# Altium integrated library Analog Devices Data Converters Analog-to-Digital Converters.IntLib: 2404 symbols (part 222 of 346)
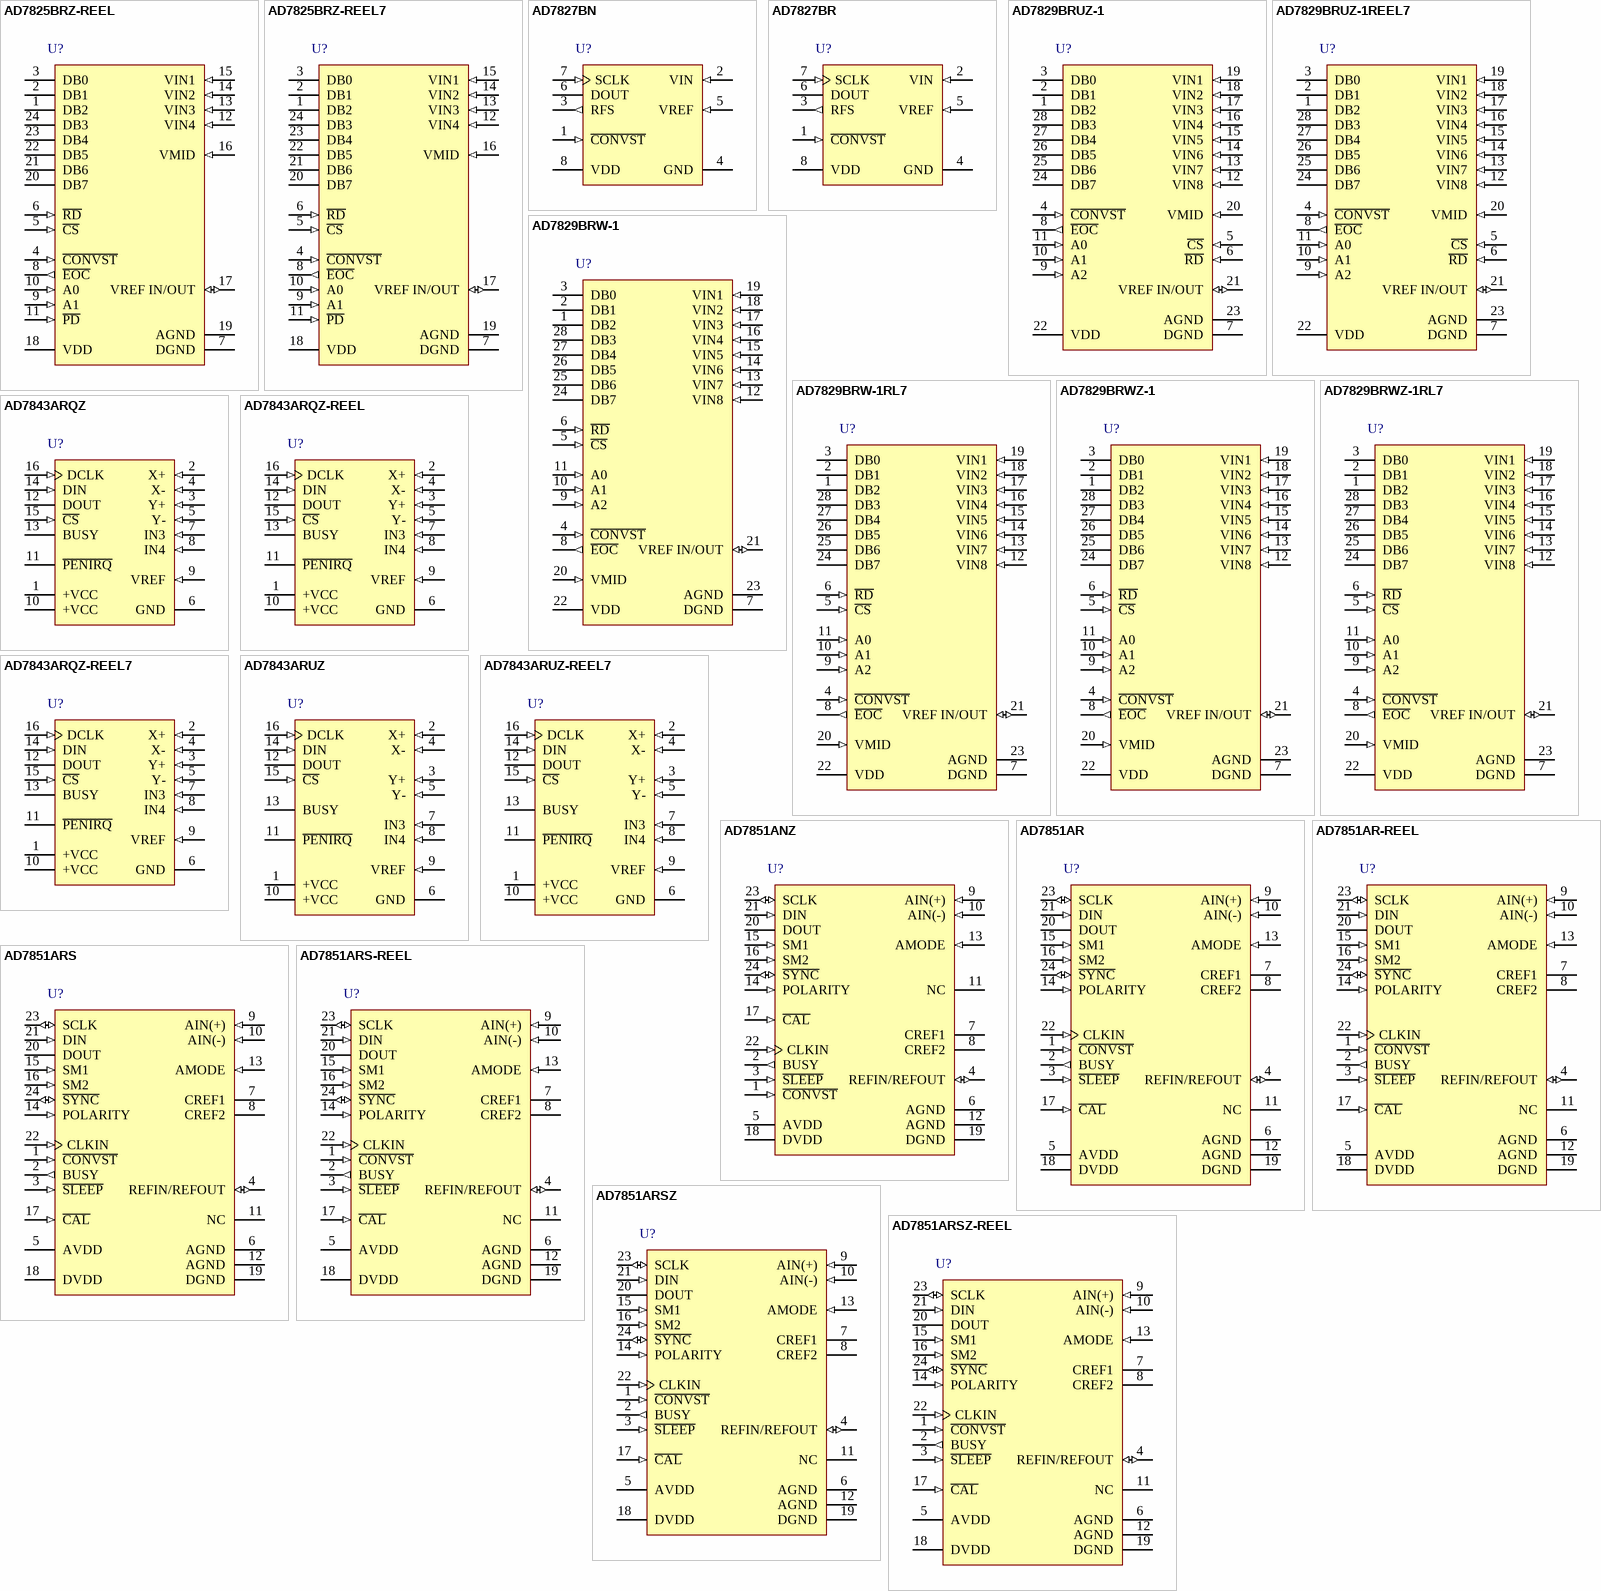
[diagram p274: symbols AD7825BRZ-REEL to AD7851ARSZ-REEL]

## AD7843ARQZ-REEL7
designator U?
4 Channel 12-Bit Touch Screen Digitizer with Serial Interface, 125KSPS, 0 to +70 degC, RQ-16, Pb-Free, Reel; Generic Part Number: AD7843; Manufacturer: Analog Devices; PartNumber: AD7843ARQZ-REEL7; Resolution (Bits): 12; Channels: 4; Throughput Rate (SPS): 125K; Interface: Ser; DatasheetVersion: Rev.B; PackageVersion: Aug-2005; PackageReference: RQ-16; PackageDescription: 16-Lead Shrink Small Outline Package [QSOP]; Supplier 1: Digi-Key; Supplier Part Number 1: AD7843ARQZ-REEL7TR-ND; Supplier 2: Digi-Key; Supplier Part Number 2: AD7843ARQZ-REEL7CT-ND; Supplier 3: Digi-Key; Supplier Part Number 3: AD7843ARQZ-REEL7DKR-ND; Supplier 4: Mouser; Supplier Part Number 4: 584-AD7843ARQZ-R7; RoHS: Y; Packing: Reel; Mounting Technology: Surface Mount; Code_JEDEC: MO-137-AB; ComponentLink1Description: Manufacturer URL; ComponentLink1URL: http://www.analog.com/en/index.html; ComponentLink2Description: Datasheet; ComponentLink2URL: http://www.analog.com/static/imported-files/data_sheets/AD7843.pdf; ComponentLink3Description: Package Specification; ComponentLink3URL: http://www.analog.com/static/imported-files/packages/5595549651201762937RQ_16.pdf; ComponentLink4Description: Product URL; ComponentLink4URL: http://www.analog.com/en/analog-to-digital-converters/ad-converters/ad7843/products/product.html
footprint RQ-16_N (SOP, 16-Leads, Body 4.9x3.9mm, Pitch 0.635mm, IPC Medium Density)
footprint RQ-16_L (SOP, 16-Leads, Body 4.9x3.9mm, Pitch 0.635mm, IPC High Density)
footprint RQ-16_M (SOP, 16-Leads, Body 4.9x3.9mm, Pitch 0.635mm, IPC Low Density)
pins: 1 +VCC (power) "Power Supply Input. The +VCC range for the AD7843 is from 2.2 V to 5.25 V. Both +VCC pins should be connected directly together.", 2 X+ (in) "X+ Position Input. ADC Input Channel 1.", 3 Y+ (in) "Y+ Position Input. ADC Input Channel 2.", 4 X- (in) "X- Position Input.", 5 Y- (in) "Y- Position Input.", 6 GND (power) "Analog Ground. Ground reference point for all circuitry on the AD7843. All analog input signals and any external reference signal should be referred to this GND voltage.", 7 IN3 (in) "Auxiliary Input 1. ADC Input Channel 3.", 8 IN4 (in) "Auxiliary Input 2. ADC Input Channel 4.", 9 VREF (in) "Reference Input for the AD7843. An external reference must be applied to this input. The voltage range for the external reference is 1.0 V to +VCC. For specified performance, it is 2.5 V.", 10 +VCC (power) "Power Supply Input. The +VCC range for the AD7843 is from 2.2 V to 5.25 V. Both +VCC pins should be connected directly together.", 11 ~{PENIRQ} (oc) "Pen Interrupt. CMOS logic open-drain output (requires 10 kohm to 100 kohm pull-up register externally).", 12 DOUT (hiz) "Data Out. Logic Output. The conversion result from the AD7843 is provided on this output as a serial data stream.The bits are clocked out on the falling edge of the DCLK input. This output is high impedance when C\S\ is high.", 13 BUSY (hiz) "BUSY Output. Logic Output. This output is high impedance when C\S\ is high.", 14 DIN (in) "Data In. Logic input. Data to be written to the AD7843 control register is provided on this input and is clocked into the register on the rising edge of DCLK (see the Control Register section).", 15 ~{CS} (in) "Chip Select Input. Active Low Logic Input. This input provides the dual function of initiating conversions on the AD7843 and also enables the serial input/output register.", 16 DCLK (in) "External Clock Input. Logic Input. DCLK provides the serial clock for accessing data from the part. This clock input is also used as the clock source for the AD7843 conversion process."

## AD7843ARUZ
designator U?
4 Channel 12-Bit Touch Screen Digitizer with Serial Interface, 125KSPS, -40 to +85 degC, RU-16, Pb-Freem, Tube; Generic Part Number: AD7843; Manufacturer: Analog Devices; PartNumber: AD7843ARUZ; Resolution (Bits): 12; Channels: 4; Throughput Rate (SPS): 125K; Interface: Ser; DatasheetVersion: Rev.B; PackageVersion: Nov-2002; PackageReference: RU-16; PackageDescription: 16-Lead Thin Shrink Small Outline Package [TSSOP]; Supplier 1: Digi-Key; Supplier Part Number 1: AD7843ARUZ-ND; Supplier 2: Farnell; Supplier Part Number 2: 1699610; Supplier 3: Newark; Supplier Part Number 3: 59K5648; Supplier 4: Mouser; Supplier Part Number 4: 584-AD7843ARUZ; RoHS: Y; Packing: Tube; Mounting Technology: Surface Mount; Code_JEDEC: MO-153-AB; ComponentLink1Description: Manufacturer URL; ComponentLink1URL: http://www.analog.com/en/index.html; ComponentLink2Description: Datasheet; ComponentLink2URL: http://www.analog.com/static/imported-files/data_sheets/AD7843.pdf; ComponentLink3Description: Package Specification; ComponentLink3URL: http://www.analog.com/static/imported-files/packages/36244347913743854010197452789RU16.pdf; ComponentLink4Description: Product URL; ComponentLink4URL: http://www.analog.com/en/analog-to-digital-converters/ad-converters/ad7843/products/product.html
footprint RU-16_N (TSOP, 16-Leads, Body 5x4.4mm, Pitch 0.65mm, IPC Medium Density)
footprint RU-16_L (TSOP, 16-Leads, Body 5x4.4mm, Pitch 0.65mm, IPC High Density)
footprint RU-16_M (TSOP, 16-Leads, Body 5x4.4mm, Pitch 0.65mm, IPC Low Density)
pins: 1 +VCC (power) "Power Supply Input. The +VCC range for the AD7843 is from 2.2 V to 5.25 V. Both +VCC pins should be connected directly together.", 2 X+ (in) "X+ Position Input. ADC Input Channel 1.", 3 Y+ (in) "Y+ Position Input. ADC Input Channel 2.", 4 X- (in) "X- Position Input.", 5 Y- (in) "Y- Position Input.", 6 GND (power) "Analog Ground. Ground reference point for all circuitry on the AD7843. All analog input signals and any external reference signal should be referred to this GND voltage.", 7 IN3 (in) "Auxiliary Input 1. ADC Input Channel 3.", 8 IN4 (in) "Auxiliary Input 2. ADC Input Channel 4.", 9 VREF (in) "Reference Input for the AD7843. An external reference must be applied to this input. The voltage range for the external reference is 1.0 V to +VCC. For specified performance, it is 2.5 V.", 10 +VCC (power) "Power Supply Input. The +VCC range for the AD7843 is from 2.2 V to 5.25 V. Both +VCC pins should be connected directly together.", 11 ~{PENIRQ} (oc) "Pen Interrupt. CMOS logic open-drain output (requires 10 k ohm to 100 k ohm pull-up register externally).", 12 DOUT (hiz) "Data Out. Logic Output. The conversion result from the AD7843 is provided on this output as a serial data stream.The bits are clocked out on the falling edge of the DCLK input. This output is high impedance when C\S\ is high.", 13 BUSY (hiz) "BUSY Output. Logic Output. This output is high impedance when C\S\ is high.", 14 DIN (in) "Data In. Logic input. Data to be written to the AD7843 control register is provided on this input and is clocked into the register on the rising edge of DCLK (see the Control Register section).", 15 ~{CS} (in) "Chip Select Input. Active Low Logic Input. This input provides the dual function of initiating conversions on the AD7843 and also enables the serial input/output register.", 16 DCLK (in) "External Clock Input. Logic Input. DCLK provides the serial clock for accessing data from the part. This clock input is also used as the clock source for the AD7843 conversion process."

## AD7843ARUZ-REEL7
designator U?
4 Channel Touch Screen Digitizer with Serial Interface, 125KSPS, -40 to +85 degC, RU-16, Pb-Free, Reel; Generic Part Number: AD7843; Manufacturer: Analog Devices; PartNumber: AD7843ARUZ-REEL7; Resolution (Bits): 12; Channels: 4; Throughput Rate (SPS): 125K; Interface: Ser; DatasheetVersion: Rev.B; PackageVersion: Nov-2002; PackageReference: RU-16; PackageDescription: 16-Lead Thin Shrink Small Outline Package [TSSOP]; Supplier 1: Digi-Key; Supplier Part Number 1: AD7843ARUZ-REEL7TR-ND; Supplier 2: Digi-Key; Supplier Part Number 2: AD7843ARUZ-REEL7CT-ND; Supplier 3: Digi-Key; Supplier Part Number 3: AD7843ARUZ-REEL7DKR-ND; Supplier 4: Newark; Supplier Part Number 4: 59K5649; Supplier 5: Mouser; Supplier Part Number 5: 584-AD7843ARUZ-R7; RoHS: Y; Packing: Reel; Mounting Technology: Surface Mount; Code_JEDEC: MO-153-AB; ComponentLink1Description: Manufacturer URL; ComponentLink1URL: http://www.analog.com/en/index.html; ComponentLink2Description: Datasheet; ComponentLink2URL: http://www.analog.com/static/imported-files/data_sheets/AD7843.pdf; ComponentLink3Description: Package Specification; ComponentLink3URL: http://www.analog.com/static/imported-files/packages/36244347913743854010197452789RU16.pdf; ComponentLink4Description: Product URL; ComponentLink4URL: http://www.analog.com/en/analog-to-digital-converters/ad-converters/ad7843/products/product.html
footprint RU-16_N (TSOP, 16-Leads, Body 5x4.4mm, Pitch 0.65mm, IPC Medium Density)
footprint RU-16_L (TSOP, 16-Leads, Body 5x4.4mm, Pitch 0.65mm, IPC High Density)
footprint RU-16_M (TSOP, 16-Leads, Body 5x4.4mm, Pitch 0.65mm, IPC Low Density)
pins: 1 +VCC (power) "Power Supply Input. The +VCC range for the AD7843 is from 2.2 V to 5.25 V. Both +VCC pins should be connected directly together.", 2 X+ (in) "X+ Position Input. ADC Input Channel 1.", 3 Y+ (in) "Y+ Position Input. ADC Input Channel 2.", 4 X- (in) "X- Position Input.", 5 Y- (in) "Y- Position Input.", 6 GND (power) "Analog Ground. Ground reference point for all circuitry on the AD7843. All analog input signals and any external reference signal should be referred to this GND voltage.", 7 IN3 (in) "Auxiliary Input 1. ADC Input Channel 3.", 8 IN4 (in) "Auxiliary Input 2. ADC Input Channel 4.", 9 VREF (in) "Reference Input for the AD7843. An external reference must be applied to this input. The voltage range for the external reference is 1.0 V to +VCC. For specified performance, it is 2.5 V.", 10 +VCC (power) "Power Supply Input. The +VCC range for the AD7843 is from 2.2 V to 5.25 V. Both +VCC pins should be connected directly together.", 11 ~{PENIRQ} (oc) "Pen Interrupt. CMOS logic open-drain output (requires 10 k ohm to 100 k ohm pull-up register externally).", 12 DOUT (hiz) "Data Out. Logic Output. The conversion result from the AD7843 is provided on this output as a serial data stream.The bits are clocked out on the falling edge of the DCLK input. This output is high impedance when C\S\ is high.", 13 BUSY (hiz) "BUSY Output. Logic Output. This output is high impedance when C\S\ is high.", 14 DIN (in) "Data In. Logic input. Data to be written to the AD7843 control register is provided on this input and is clocked into the register on the rising edge of DCLK (see the Control Register section).", 15 ~{CS} (in) "Chip Select Input. Active Low Logic Input. This input provides the dual function of initiating conversions on the AD7843 and also enables the serial input/output register.", 16 DCLK (in) "External Clock Input. Logic Input. DCLK provides the serial clock for accessing data from the part. This clock input is also used as the clock source for the AD7843 conversion process."

## AD7851ANZ
designator U?
Single 14-Bit Analog-to-Digital Converter with Serial, SPI Interface, 333KSPS, -40 to +85 degC, Unknown Package, Pb-Free, Tube; Generic Part Number: AD7851A; Manufacturer: Analog Devices; PartNumber: AD7851ANZ; Resolution (Bits): 14; Channels: 1; Throughput Rate (SPS): 333K; Interface: Ser, SPI; DatasheetVersion: Rev.B; PackageVersion: 2000; PackageReference: N-24; PackageDescription: 24-Lead Plastic Dual In-Line Package [PDIP]; Supplier 1: Digi-Key; Supplier Part Number 1: AD7851ANZ-ND; Supplier 2: Newark; Supplier Part Number 2: 12M8958; RoHS: Y; Packing: Tube; Mounting Technology: Through-hole; ComponentLink1Description: Manufacturer URL; ComponentLink1URL: http://www.analog.com/en/index.html; ComponentLink2Description: Datasheet; ComponentLink2URL: http://www.analog.com/static/imported-files/data_sheets/AD7851.pdf; ComponentLink3Description: Package Specification; ComponentLink3URL: N-24; ComponentLink4Description: Product URL; ComponentLink4URL: http://www.analog.com/en/analog-to-digital-converters/ad-converters/ad7851/products/product.html
footprint N-24 (DIP, 24-Leads, Row Spacing 7.62mm, Pitch 2.54mm, Body 31.2x6.6mm)
pins: 1 ~{CONVST} (in) "Convert Start. Logic input. A low-to-high transition on this input puts the track-and-hold into its hold mode and starts conversion. When this input is not used, it should be tied to DVDD.", 2 BUSY (out) "Busy Output. The busy output is triggered high by the falling edge of C\O\N\V\S\T\ or rising edge of C\A\L\ and remains high until conversion is completed. BUSY is also used to indicate when the AD7851 has completed its (See Datasheet)", 3 ~{SLEEP} (in) "Sleep Input/Low Power Mode. A Logic 0 initiates a sleep and all circuitry is powered down, including the internal voltage reference, provided there is no conversion or calibration being performed. Calibration data is (See Datasheet)", 4 REFIN/REFOUT (io) "Reference Input/Output. This pin is connected to the internal reference through a series resistor and is the reference source for the analog-to-digital converter. The nominal reference voltage is 4.096 V and this appears at (See Datasheet)", 5 AVDD (power) "Analog Positive Supply Voltage, 5.0 V +/- 5%.", 6 AGND (power) "Analog Ground. Ground reference for track and hold, reference, and DAC.", 7 CREF1 "Reference Capacitor (0.1 uF ceramic disc in parallel with a 470 nF tantalum). This external capacitor is used as a charge source for the internal DAC. The capacitor should be tied between the pin and AGND.", 8 CREF2 "Reference Capacitor (0.01 uF ceramic disc). This external capacitor is used in conjunction with the on-chip reference. The capacitor should be tied between the pin and AGND.", 9 AIN(+) (in) "Analog Input. Positive input of the pseudo-differential analog input. Cannot go below AGND or above AVDD at any time and cannot go below AIN(-) when the unipolar input range is selected.", 10 AIN(-) (in) "Analog Input. Negative input of the pseudo-differential analog input. Cannot go below AGND or above AVDD at any time.", 11 NC "No Connect Pin.", 12 AGND (power) "Analog Ground. Ground reference for track and hold, reference, and DAC.", 13 AMODE (in) "Analog Mode Pin. This pin allows two different analog input ranges to be selected. A Logic 0 selects range 0 to VREF (i.e., AIN(+) - AIN(-) = 0 to VREF). In this case, AIN(+) cannot go below AIN(-) and AIN(-) cannot go below (See Datasheet)", 14 POLARITY (in) "Serial Clock Polarity. This pin determines the active edge of the serial clock (SCLK). Toggling this pin will reverse the active edge of the serial clock (SCLK). A Logic 1 means that the serial clock (SCLK) idles high and a (See Datasheet)", 15 SM1 (in) "Serial Mode Select Pin. This pin is used in conjunction with the SM2 pin to give different modes of operation as described in Table X.", 16 SM2 (in) "Serial Mode Select Pin. This pin is used in conjunction with the SM1 pin to give different modes of operation as described in Table X.", 17 ~{CAL} (in) "Calibration Input. This pin has an internal pull-up current source of 0.15 uA. A Logic 0 on this pin resets all calibration control logic and initiates a calibration on its rising edge. There is the option of connecting a 10 (See Datasheet)", 18 DVDD (power) "Digital Supply Voltage, 5.0 V +/- 5%.", 19 DGND (power) "Digital Ground. Ground reference point for digital circuitry.", 20 DOUT (hiz) "Serial Data Output. The data output is supplied to this pin as a 16-bit serial word.", 21 DIN (in) "Serial Data Input. The data to be written is applied to this pin in serial form (16-bit word). This pin can act as an input pin or as a input and output pin depending on the serial interface mode the part is in (see Table X).", 22 CLKIN (in) "Master Clock Signal for the Device (6 MHz or 7 MHz). Sets the conversion and calibration times.", 23 SCLK (io) "Serial Port Clock. Logic input/output. The SCLK pin is configured as an input or output, dependent on the type of serial data transmission (self-clocking or external-clocking) that has been selected by the SM1 and SM2 pins. (See Datasheet)", 24 ~{SYNC} (io) "This pin can be an input level triggered active low (similar to a chip select in one case and to a frame sync in the other) or an output (similar to a frame sync) pin depending on SM1, SM2 (see Table X)."

## AD7851AR
designator U?
Single 14-Bit Analog-to-Digital Converter with Serial, SPI Interface, 333KSPS, -40 to +85 degC, RW-24, Tube; Generic Part Number: AD7851A; Manufacturer: Analog Devices; PartNumber: AD7851AR; Resolution (Bits): 14; Channels: 1; Throughput Rate (SPS): 333K; Interface: Ser, SPI; DatasheetVersion: Rev.B; PackageVersion: 060706-A; PackageReference: RW-24; PackageDescription: 24-Lead Standard Small Outline Package [SOIC_W]; RoHS: N; Packing: Tube; Mounting Technology: Surface Mount; Code_JEDEC: MS-013-AD; ComponentLink1Description: Manufacturer URL; ComponentLink1URL: http://www.analog.com/en/index.html; ComponentLink2Description: Datasheet; ComponentLink2URL: http://www.analog.com/static/imported-files/data_sheets/AD7851.pdf; ComponentLink3Description: Package Specification; ComponentLink3URL: http://www.analog.com/static/imported-files/packages/33665150946139RW_24.pdf; ComponentLink4Description: Product URL; ComponentLink4URL: http://www.analog.com/en/analog-to-digital-converters/ad-converters/ad7851/products/product.html
footprint RW-24_N (SOIC, 24-Leads, Body 15.4x7.5mm, Pitch 1.27mm, IPC Medium Density)
footprint RW-24_L (SOIC, 24-Leads, Body 15.4x7.5mm, Pitch 1.27mm, IPC High Density)
footprint RW-24_M (SOIC, 24-Leads, Body 15.4x7.5mm, Pitch 1.27mm, IPC Low Density)
pins: 1 ~{CONVST} (in) "Convert Start. Logic input. A low-to-high transition on this input puts the track-and-hold into its hold mode and starts conversion. When this input is not used, it should be tied to DVDD.", 2 BUSY (out) "Busy Output. The busy output is triggered high by the falling edge of C\O\N\V\S\T\ or rising edge of C\A\L\ and remains high until conversion is completed. BUSY is also used to indicate when the AD7851 has completed its (See Datasheet)", 3 ~{SLEEP} (in) "Sleep Input/Low Power Mode. A Logic 0 initiates a sleep and all circuitry is powered down, including the internal voltage reference, provided there is no conversion or calibration being performed. Calibration data is (See Datasheet)", 4 REFIN/REFOUT (io) "Reference Input/Output. This pin is connected to the internal reference through a series resistor and is the reference source for the analog-to-digital converter. The nominal reference voltage is 4.096 V and this appears at (See Datasheet)", 5 AVDD (power) "Analog Positive Supply Voltage, 5.0 V +/- 5%.", 6 AGND (power) "Analog Ground. Ground reference for track and hold, reference, and DAC", 7 CREF1 "Reference Capacitor (0.1 μF ceramic disc in parallel with a 470 nF tantalum). This external capacitor is used as a charge source for the internal DAC. The capacitor should be tied between the pin and AGND.", 8 CREF2 "Reference Capacitor (0.01 μF ceramic disc). This external capacitor is used in conjunction with the on-chip reference. The capacitor should be tied between the pin and AGND.", 9 AIN(+) (in) "Analog Input. Positive input of the pseudo-differential analog input. Cannot go below AGND or above AVDD at any time and cannot go below AIN(-) when the unipolar input range is selected.", 10 AIN(-) (in) "Analog Input. Negative input of the pseudo-differential analog input. Cannot go below AGND or above AVDD at any time.", 11 NC "No Connect Pin.", 12 AGND (power) "Analog Ground. Ground reference for track and hold, reference, and DAC", 13 AMODE (in) "Analog Mode Pin. This pin allows two different analog input ranges to be selected. A Logic 0 selects range 0 to VREF (i.e., AIN(+) - AIN(-) = 0 to VREF). In this case, AIN(+) cannot go below AIN(-) and AIN(-) cannot go below (See Datasheet)", 14 POLARITY (in) "Serial Clock Polarity. This pin determines the active edge of the serial clock (SCLK). Toggling this pin will reverse the active edge of the serial clock (SCLK). A Logic 1 means that the serial clock (SCLK) idles high and a (See Datasheet)", 15 SM1 (in) "Serial Mode Select Pin. This pin is used in conjunction with the SM2 pin to give different modes of operation as described in Table X", 16 SM2 (in) "Serial Mode Select Pin. This pin is used in conjunction with the SM1 pin to give different modes of operation as described in Table X.", 17 ~{CAL} (in) "Calibration Input. This pin has an internal pull-up current source of 0.15 μA. A Logic 0 on this pin resets all calibration control logic and initiates a calibration on its rising edge. There is the option of connecting a 10 (See Datasheet)", 18 DVDD (power) "Digital Supply Voltage, 5.0 V +/- 5%.", 19 DGND (power) "Digital Ground. Ground reference point for digital circuitry.", 20 DOUT (hiz) "Serial Data Output. The data output is supplied to this pin as a 16-bit serial word.", 21 DIN (in) "Serial Data Input. The data to be written is applied to this pin in serial form (16-bit word). This pin can act as an input pin or as a input and output pin depending on the serial interface mode the part is in (see Table X).", 22 CLKIN (in) "Master Clock Signal for the Device (6 MHz or 7 MHz). Sets the conversion and calibration times.", 23 SCLK (io) "Serial Port Clock. Logic input/output. The SCLK pin is configured as an input or output, dependent on the type of serial data transmission (self-clocking or external-clocking) that has been selected by the SM1 and SM2 pins. (See Datasheet)", 24 ~{SYNC} (io) "This pin can be an input level triggered active low (similar to a chip select in one case and to a frame sync in the other) or an output (similar to a frame sync) pin depending on SM1, SM2 (see Table X)."

## AD7851AR-REEL
designator U?
Single 14-Bit Analog-to-Digital Converter with Serial, SPI Interface, 333KSPS, -40 to +85 degC, RW-24, Reel; Generic Part Number: AD7851A; Manufacturer: Analog Devices; PartNumber: AD7851AR-REEL; Resolution (Bits): 14; Channels: 1; Throughput Rate (SPS): 333K; Interface: Ser, SPI; DatasheetVersion: Rev.B; PackageVersion: 060706-A; PackageReference: RW-24; PackageDescription: 24-Lead Standard Small Outline Package [SOIC_W]; RoHS: N; Packing: Reel; Mounting Technology: Surface Mount; Code_JEDEC: MS-013-AD; ComponentLink1Description: Manufacturer URL; ComponentLink1URL: http://www.analog.com/en/index.html; ComponentLink2Description: Datasheet; ComponentLink2URL: http://www.analog.com/static/imported-files/data_sheets/AD7851.pdf; ComponentLink3Description: Package Specification; ComponentLink3URL: http://www.analog.com/static/imported-files/packages/33665150946139RW_24.pdf; ComponentLink4Description: Product URL; ComponentLink4URL: http://www.analog.com/en/analog-to-digital-converters/ad-converters/ad7851/products/product.html
footprint RW-24_N (SOIC, 24-Leads, Body 15.4x7.5mm, Pitch 1.27mm, IPC Medium Density)
footprint RW-24_L (SOIC, 24-Leads, Body 15.4x7.5mm, Pitch 1.27mm, IPC High Density)
footprint RW-24_M (SOIC, 24-Leads, Body 15.4x7.5mm, Pitch 1.27mm, IPC Low Density)
pins: 1 ~{CONVST} (in) "Convert Start. Logic input. A low-to-high transition on this input puts the track-and-hold into its hold mode and starts conversion. When this input is not used, it should be tied to DVDD.", 2 BUSY (out) "Busy Output. The busy output is triggered high by the falling edge of C\O\N\V\S\T\ or rising edge of C\A\L\ and remains high until conversion is completed. BUSY is also used to indicate when the AD7851 has completed its (See Datasheet)", 3 ~{SLEEP} (in) "Sleep Input/Low Power Mode. A Logic 0 initiates a sleep and all circuitry is powered down, including the internal voltage reference, provided there is no conversion or calibration being performed. Calibration data is (See Datasheet)", 4 REFIN/REFOUT (io) "Reference Input/Output. This pin is connected to the internal reference through a series resistor and is the reference source for the analog-to-digital converter. The nominal reference voltage is 4.096 V and this appears at (See Datasheet)", 5 AVDD (power) "Analog Positive Supply Voltage, 5.0 V +/- 5%.", 6 AGND (power) "Analog Ground. Ground reference for track and hold, reference, and DAC", 7 CREF1 "Reference Capacitor (0.1 μF ceramic disc in parallel with a 470 nF tantalum). This external capacitor is used as a charge source for the internal DAC. The capacitor should be tied between the pin and AGND.", 8 CREF2 "Reference Capacitor (0.01 μF ceramic disc). This external capacitor is used in conjunction with the on-chip reference. The capacitor should be tied between the pin and AGND.", 9 AIN(+) (in) "Analog Input. Positive input of the pseudo-differential analog input. Cannot go below AGND or above AVDD at any time and cannot go below AIN(-) when the unipolar input range is selected.", 10 AIN(-) (in) "Analog Input. Negative input of the pseudo-differential analog input. Cannot go below AGND or above AVDD at any time.", 11 NC "No Connect Pin.", 12 AGND (power) "Analog Ground. Ground reference for track and hold, reference, and DAC", 13 AMODE (in) "Analog Mode Pin. This pin allows two different analog input ranges to be selected. A Logic 0 selects range 0 to VREF (i.e., AIN(+) - AIN(-) = 0 to VREF). In this case, AIN(+) cannot go below AIN(-) and AIN(-) cannot go below (See Datasheet)", 14 POLARITY (in) "Serial Clock Polarity. This pin determines the active edge of the serial clock (SCLK). Toggling this pin will reverse the active edge of the serial clock (SCLK). A Logic 1 means that the serial clock (SCLK) idles high and a (See Datasheet)", 15 SM1 (in) "Serial Mode Select Pin. This pin is used in conjunction with the SM2 pin to give different modes of operation as described in Table X", 16 SM2 (in) "Serial Mode Select Pin. This pin is used in conjunction with the SM1 pin to give different modes of operation as described in Table X.", 17 ~{CAL} (in) "Calibration Input. This pin has an internal pull-up current source of 0.15 μA. A Logic 0 on this pin resets all calibration control logic and initiates a calibration on its rising edge. There is the option of connecting a 10 (See Datasheet)", 18 DVDD (power) "Digital Supply Voltage, 5.0 V +/- 5%.", 19 DGND (power) "Digital Ground. Ground reference point for digital circuitry.", 20 DOUT (hiz) "Serial Data Output. The data output is supplied to this pin as a 16-bit serial word.", 21 DIN (in) "Serial Data Input. The data to be written is applied to this pin in serial form (16-bit word). This pin can act as an input pin or as a input and output pin depending on the serial interface mode the part is in (see Table X).", 22 CLKIN (in) "Master Clock Signal for the Device (6 MHz or 7 MHz). Sets the conversion and calibration times.", 23 SCLK (io) "Serial Port Clock. Logic input/output. The SCLK pin is configured as an input or output, dependent on the type of serial data transmission (self-clocking or external-clocking) that has been selected by the SM1 and SM2 pins. (See Datasheet)", 24 ~{SYNC} (io) "This pin can be an input level triggered active low (similar to a chip select in one case and to a frame sync in the other) or an output (similar to a frame sync) pin depending on SM1, SM2 (see Table X)."

## AD7851ARS
designator U?
Single 14-Bit Analog-to-Digital Converter with Serial, SPI Interface, 333KSPS, -40 to +85 degC, RS-24, Tube; Generic Part Number: AD7851A; Manufacturer: Analog Devices; PartNumber: AD7851ARS; Resolution (Bits): 14; Channels: 1; Throughput Rate (SPS): 333K; Interface: Ser, SPI; DatasheetVersion: Rev.B; PackageVersion: Jan-2004; PackageReference: RS-24; PackageDescription: 24-Lead Shrink Small Outline Package [SSOP]; RoHS: N; Packing: Tube; Mounting Technology: Surface Mount; Code_JEDEC: MO-150-AG; ComponentLink1Description: Manufacturer URL; ComponentLink1URL: http://www.analog.com/en/index.html; ComponentLink2Description: Datasheet; ComponentLink2URL: http://www.analog.com/static/imported-files/data_sheets/AD7851.pdf; ComponentLink3Description: Package Specification; ComponentLink3URL: http://www.analog.com/static/imported-files/packages/320374674442511497835109639857509214147739880195087340RS_24.pdf; ComponentLink4Description: Product URL; ComponentLink4URL: http://www.analog.com/en/analog-to-digital-converters/ad-converters/ad7851/products/product.html
footprint RS-24_N (SOP, 24-Leads, Body 8.2x5.3mm, Pitch 0.65mm, IPC Medium Density)
footprint RS-24_L (SOP, 24-Leads, Body 8.2x5.3mm, Pitch 0.65mm, IPC High Density)
footprint RS-24_M (SOP, 24-Leads, Body 8.2x5.3mm, Pitch 0.65mm, IPC Low Density)
pins: 1 ~{CONVST} (in) "Convert Start. Logic input. A low-to-high transition on this input puts the track-and-hold into its hold mode and starts conversion. When this input is not used, it should be tied to DVDD.", 2 BUSY (out) "Busy Output. The busy output is triggered high by the falling edge of C\O\N\V\S\T\ or rising edge of C\A\L\ and remains high until conversion is completed. BUSY is also used to indicate when the AD7851 has completed its (See Datasheet)", 3 ~{SLEEP} (in) "Sleep Input/Low Power Mode. A Logic 0 initiates a sleep and all circuitry is powered down, including the internal voltage reference, provided there is no conversion or calibration being performed. Calibration data is (See Datasheet)", 4 REFIN/REFOUT (io) "Reference Input/Output. This pin is connected to the internal reference through a series resistor and is the reference source for the analog-to-digital converter. The nominal reference voltage is 4.096 V and this appears at (See Datasheet)", 5 AVDD (power) "Analog Positive Supply Voltage, 5.0 V +/- 5%.", 6 AGND (power) "Analog Ground. Ground reference for track and hold, reference, and DAC", 7 CREF1 "Reference Capacitor (0.1 µF ceramic disc in parallel with a 470 nF tantalum). This external capacitor is used as a charge source for the internal DAC. The capacitor should be tied between the pin and AGND.", 8 CREF2 "Reference Capacitor (0.01 µF ceramic disc). This external capacitor is used in conjunction with the on-chip reference. The capacitor should be tied between the pin and AGND.", 9 AIN(+) (in) "Analog Input. Positive input of the pseudo-differential analog input. Cannot go below AGND or above AVDD at any time and cannot go below AIN(-) when the unipolar input range is selected.", 10 AIN(-) (in) "Analog Input. Negative input of the pseudo-differential analog input. Cannot go below AGND or above AVDD at any time.", 11 NC "No Connect Pin.", 12 AGND (power) "Analog Ground. Ground reference for track and hold, reference, and DAC", 13 AMODE (in) "Analog Mode Pin. This pin allows two different analog input ranges to be selected. A Logic 0 selects range 0 to VREF (i.e., AIN(+) - AIN(-) = 0 to VREF). In this case, AIN(+) cannot go below AIN(-) and AIN(-) cannot go below (See Datasheet)", 14 POLARITY (in) "Serial Clock Polarity. This pin determines the active edge of the serial clock (SCLK). Toggling this pin will reverse the active edge of the serial clock (SCLK). A Logic 1 means that the serial clock (SCLK) idles high and a (See Datasheet)", 15 SM1 (in) "Serial Mode Select Pin. This pin is used in conjunction with the SM2 pin to give different modes of operation as described in Table X", 16 SM2 (in) "Serial Mode Select Pin. This pin is used in conjunction with the SM1 pin to give different modes of operation as described in Table X.", 17 ~{CAL} (in) "Calibration Input. This pin has an internal pull-up current source of 0.15 µA. A Logic 0 on this pin resets all calibration control logic and initiates a calibration on its rising edge. There is the option of connecting a 10 (See Datasheet)", 18 DVDD (power) "Digital Supply Voltage, 5.0 V +/- 5%.", 19 DGND (power) "Digital Ground. Ground reference point for digital circuitry.", 20 DOUT (hiz) "Serial Data Output. The data output is supplied to this pin as a 16-bit serial word.", 21 DIN (in) "Serial Data Input. The data to be written is applied to this pin in serial form (16-bit word). This pin can act as an input pin or as a input and output pin depending on the serial interface mode the part is in (see Table X).", 22 CLKIN (in) "Master Clock Signal for the Device (6 MHz or 7 MHz). Sets the conversion and calibration times.", 23 SCLK (io) "Serial Port Clock. Logic input/output. The SCLK pin is configured as an input or output, dependent on the type of serial data transmission (self-clocking or external-clocking) that has been selected by the SM1 and SM2 pins. (See Datasheet)", 24 ~{SYNC} (io) "This pin can be an input level triggered active low (similar to a chip select in one case and to a frame sync in the other) or an output (similar to a frame sync) pin depending on SM1, SM2 (see Table X)."

## AD7851ARS-REEL
designator U?
Single 14-Bit Analog-to-Digital Converter with Serial, SPI Interface, 333KSPS, -40 to +85 degC, RS-24, Reel; Generic Part Number: AD7851A; Manufacturer: Analog Devices; PartNumber: AD7851ARS-REEL; Resolution (Bits): 14; Channels: 1; Throughput Rate (SPS): 333K; Interface: Ser, SPI; DatasheetVersion: Rev.B; PackageVersion: Jan-2004; PackageReference: RS-24; PackageDescription: 24-Lead Shrink Small Outline Package [SSOP]; RoHS: N; Packing: Reel; Mounting Technology: Surface Mount; Code_JEDEC: MO-150-AG; ComponentLink1Description: Manufacturer URL; ComponentLink1URL: http://www.analog.com/en/index.html; ComponentLink2Description: Datasheet; ComponentLink2URL: http://www.analog.com/static/imported-files/data_sheets/AD7851.pdf; ComponentLink3Description: Package Specification; ComponentLink3URL: http://www.analog.com/static/imported-files/packages/320374674442511497835109639857509214147739880195087340RS_24.pdf; ComponentLink4Description: Product URL; ComponentLink4URL: http://www.analog.com/en/analog-to-digital-converters/ad-converters/ad7851/products/product.html
footprint RS-24_N (SOP, 24-Leads, Body 8.2x5.3mm, Pitch 0.65mm, IPC Medium Density)
footprint RS-24_L (SOP, 24-Leads, Body 8.2x5.3mm, Pitch 0.65mm, IPC High Density)
footprint RS-24_M (SOP, 24-Leads, Body 8.2x5.3mm, Pitch 0.65mm, IPC Low Density)
pins: 1 ~{CONVST} (in) "Convert Start. Logic input. A low-to-high transition on this input puts the track-and-hold into its hold mode and starts conversion. When this input is not used, it should be tied to DVDD.", 2 BUSY (out) "Busy Output. The busy output is triggered high by the falling edge of C\O\N\V\S\T\ or rising edge of C\A\L\ and remains high until conversion is completed. BUSY is also used to indicate when the AD7851 has completed its (See Datasheet)", 3 ~{SLEEP} (in) "Sleep Input/Low Power Mode. A Logic 0 initiates a sleep and all circuitry is powered down, including the internal voltage reference, provided there is no conversion or calibration being performed. Calibration data is (See Datasheet)", 4 REFIN/REFOUT (io) "Reference Input/Output. This pin is connected to the internal reference through a series resistor and is the reference source for the analog-to-digital converter. The nominal reference voltage is 4.096 V and this appears at (See Datasheet)", 5 AVDD (power) "Analog Positive Supply Voltage, 5.0 V +/- 5%.", 6 AGND (power) "Analog Ground. Ground reference for track and hold, reference, and DAC", 7 CREF1 "Reference Capacitor (0.1 µF ceramic disc in parallel with a 470 nF tantalum). This external capacitor is used as a charge source for the internal DAC. The capacitor should be tied between the pin and AGND.", 8 CREF2 "Reference Capacitor (0.01 µF ceramic disc). This external capacitor is used in conjunction with the on-chip reference. The capacitor should be tied between the pin and AGND.", 9 AIN(+) (in) "Analog Input. Positive input of the pseudo-differential analog input. Cannot go below AGND or above AVDD at any time and cannot go below AIN(-) when the unipolar input range is selected.", 10 AIN(-) (in) "Analog Input. Negative input of the pseudo-differential analog input. Cannot go below AGND or above AVDD at any time.", 11 NC "No Connect Pin.", 12 AGND (power) "Analog Ground. Ground reference for track and hold, reference, and DAC", 13 AMODE (in) "Analog Mode Pin. This pin allows two different analog input ranges to be selected. A Logic 0 selects range 0 to VREF (i.e., AIN(+) - AIN(-) = 0 to VREF). In this case, AIN(+) cannot go below AIN(-) and AIN(-) cannot go below (See Datasheet)", 14 POLARITY (in) "Serial Clock Polarity. This pin determines the active edge of the serial clock (SCLK). Toggling this pin will reverse the active edge of the serial clock (SCLK). A Logic 1 means that the serial clock (SCLK) idles high and a (See Datasheet)", 15 SM1 (in) "Serial Mode Select Pin. This pin is used in conjunction with the SM2 pin to give different modes of operation as described in Table X", 16 SM2 (in) "Serial Mode Select Pin. This pin is used in conjunction with the SM1 pin to give different modes of operation as described in Table X.", 17 ~{CAL} (in) "Calibration Input. This pin has an internal pull-up current source of 0.15 µA. A Logic 0 on this pin resets all calibration control logic and initiates a calibration on its rising edge. There is the option of connecting a 10 (See Datasheet)", 18 DVDD (power) "Digital Supply Voltage, 5.0 V +/- 5%.", 19 DGND (power) "Digital Ground. Ground reference point for digital circuitry.", 20 DOUT (hiz) "Serial Data Output. The data output is supplied to this pin as a 16-bit serial word.", 21 DIN (in) "Serial Data Input. The data to be written is applied to this pin in serial form (16-bit word). This pin can act as an input pin or as a input and output pin depending on the serial interface mode the part is in (see Table X).", 22 CLKIN (in) "Master Clock Signal for the Device (6 MHz or 7 MHz). Sets the conversion and calibration times.", 23 SCLK (io) "Serial Port Clock. Logic input/output. The SCLK pin is configured as an input or output, dependent on the type of serial data transmission (self-clocking or external-clocking) that has been selected by the SM1 and SM2 pins. (See Datasheet)", 24 ~{SYNC} (io) "This pin can be an input level triggered active low (similar to a chip select in one case and to a frame sync in the other) or an output (similar to a frame sync) pin depending on SM1, SM2 (see Table X)."

## AD7851ARSZ
designator U?
Single 14-Bit Analog-to-Digital Converter with Serial, SPI Interface, 333KSPS, -40 to +85 degC, RS-24, Pb-Free, Tube; Generic Part Number: AD7851A; Manufacturer: Analog Devices; PartNumber: AD7851ARSZ; Resolution (Bits): 14; Channels: 1; Throughput Rate (SPS): 333K; Interface: Ser, SPI; DatasheetVersion: Rev.B; PackageVersion: Jan-2004; PackageReference: RS-24; PackageDescription: 24-Lead Shrink Small Outline Package [SSOP]; Supplier 1: Digi-Key; Supplier Part Number 1: AD7851ARSZ-ND; Supplier 2: Mouser; Supplier Part Number 2: 584-AD7851ARSZ; RoHS: Y; Packing: Tube; Mounting Technology: Surface Mount; Code_JEDEC: MO-150-AG; ComponentLink1Description: Manufacturer URL; ComponentLink1URL: http://www.analog.com/en/index.html; ComponentLink2Description: Datasheet; ComponentLink2URL: http://www.analog.com/static/imported-files/data_sheets/AD7851.pdf; ComponentLink3Description: Package Specification; ComponentLink3URL: http://www.analog.com/static/imported-files/packages/320374674442511497835109639857509214147739880195087340RS_24.pdf; ComponentLink4Description: Product URL; ComponentLink4URL: http://www.analog.com/en/analog-to-digital-converters/ad-converters/ad7851/products/product.html
footprint RS-24_N (SOP, 24-Leads, Body 8.2x5.3mm, Pitch 0.65mm, IPC Medium Density)
footprint RS-24_L (SOP, 24-Leads, Body 8.2x5.3mm, Pitch 0.65mm, IPC High Density)
footprint RS-24_M (SOP, 24-Leads, Body 8.2x5.3mm, Pitch 0.65mm, IPC Low Density)
pins: 1 ~{CONVST} (in) "Convert Start. Logic input. A low-to-high transition on this input puts the track-and-hold into its hold mode and starts conversion. When this input is not used, it should be tied to DVDD.", 2 BUSY (out) "Busy Output. The busy output is triggered high by the falling edge of C\O\N\V\S\T\ or rising edge of C\A\L\ and remains high until conversion is completed. BUSY is also used to indicate when the AD7851 has completed its (See Datasheet)", 3 ~{SLEEP} (in) "Sleep Input/Low Power Mode. A Logic 0 initiates a sleep and all circuitry is powered down, including the internal voltage reference, provided there is no conversion or calibration being performed. Calibration data is (See Datasheet)", 4 REFIN/REFOUT (io) "Reference Input/Output. This pin is connected to the internal reference through a series resistor and is the reference source for the analog-to-digital converter. The nominal reference voltage is 4.096 V and this appears at (See Datasheet)", 5 AVDD (power) "Analog Positive Supply Voltage, 5.0 V +/- 5%.", 6 AGND (power) "Analog Ground. Ground reference for track and hold, reference, and DAC", 7 CREF1 "Reference Capacitor (0.1 µF ceramic disc in parallel with a 470 nF tantalum). This external capacitor is used as a charge source for the internal DAC. The capacitor should be tied between the pin and AGND.", 8 CREF2 "Reference Capacitor (0.01 µF ceramic disc). This external capacitor is used in conjunction with the on-chip reference. The capacitor should be tied between the pin and AGND.", 9 AIN(+) (in) "Analog Input. Positive input of the pseudo-differential analog input. Cannot go below AGND or above AVDD at any time and cannot go below AIN(-) when the unipolar input range is selected.", 10 AIN(-) (in) "Analog Input. Negative input of the pseudo-differential analog input. Cannot go below AGND or above AVDD at any time.", 11 NC "No Connect Pin.", 12 AGND (power) "Analog Ground. Ground reference for track and hold, reference, and DAC", 13 AMODE (in) "Analog Mode Pin. This pin allows two different analog input ranges to be selected. A Logic 0 selects range 0 to VREF (i.e., AIN(+) - AIN(-) = 0 to VREF). In this case, AIN(+) cannot go below AIN(-) and AIN(-) cannot go below (See Datasheet)", 14 POLARITY (in) "Serial Clock Polarity. This pin determines the active edge of the serial clock (SCLK). Toggling this pin will reverse the active edge of the serial clock (SCLK). A Logic 1 means that the serial clock (SCLK) idles high and a (See Datasheet)", 15 SM1 (in) "Serial Mode Select Pin. This pin is used in conjunction with the SM2 pin to give different modes of operation as described in Table X", 16 SM2 (in) "Serial Mode Select Pin. This pin is used in conjunction with the SM1 pin to give different modes of operation as described in Table X.", 17 ~{CAL} (in) "Calibration Input. This pin has an internal pull-up current source of 0.15 µA. A Logic 0 on this pin resets all calibration control logic and initiates a calibration on its rising edge. There is the option of connecting a 10 (See Datasheet)", 18 DVDD (power) "Digital Supply Voltage, 5.0 V +/- 5%.", 19 DGND (power) "Digital Ground. Ground reference point for digital circuitry.", 20 DOUT (hiz) "Serial Data Output. The data output is supplied to this pin as a 16-bit serial word.", 21 DIN (in) "Serial Data Input. The data to be written is applied to this pin in serial form (16-bit word). This pin can act as an input pin or as a input and output pin depending on the serial interface mode the part is in (see Table X).", 22 CLKIN (in) "Master Clock Signal for the Device (6 MHz or 7 MHz). Sets the conversion and calibration times.", 23 SCLK (io) "Serial Port Clock. Logic input/output. The SCLK pin is configured as an input or output, dependent on the type of serial data transmission (self-clocking or external-clocking) that has been selected by the SM1 and SM2 pins. (See Datasheet)", 24 ~{SYNC} (io) "This pin can be an input level triggered active low (similar to a chip select in one case and to a frame sync in the other) or an output (similar to a frame sync) pin depending on SM1, SM2 (see Table X)."

## AD7851ARSZ-REEL
designator U?
Single 14-Bit Analog-to-Digital Converter with Serial, SPI Interface, 333KSPS, -40 to +85 degC, RS-24, Pb-Free, Reel; Generic Part Number: AD7851A; Manufacturer: Analog Devices; PartNumber: AD7851ARSZ-REEL; Resolution (Bits): 14; Channels: 1; Throughput Rate (SPS): 333K; Interface: Ser, SPI; DatasheetVersion: Rev.B; PackageVersion: Jan-2004; PackageReference: RS-24; PackageDescription: 24-Lead Shrink Small Outline Package [SSOP]; Supplier 1: Digi-Key; Supplier Part Number 1: AD7851ARSZ-REEL-ND; Supplier 2: Mouser; Supplier Part Number 2: 584-AD7851ARSZ-R; RoHS: Y; Packing: Reel; Mounting Technology: Surface Mount; Code_JEDEC: MO-150-AG; ComponentLink1Description: Manufacturer URL; ComponentLink1URL: http://www.analog.com/en/index.html; ComponentLink2Description: Datasheet; ComponentLink2URL: http://www.analog.com/static/imported-files/data_sheets/AD7851.pdf; ComponentLink3Description: Package Specification; ComponentLink3URL: http://www.analog.com/static/imported-files/packages/320374674442511497835109639857509214147739880195087340RS_24.pdf; ComponentLink4Description: Product URL; ComponentLink4URL: http://www.analog.com/en/analog-to-digital-converters/ad-converters/ad7851/products/product.html
footprint RS-24_N (SOP, 24-Leads, Body 8.2x5.3mm, Pitch 0.65mm, IPC Medium Density)
footprint RS-24_L (SOP, 24-Leads, Body 8.2x5.3mm, Pitch 0.65mm, IPC High Density)
footprint RS-24_M (SOP, 24-Leads, Body 8.2x5.3mm, Pitch 0.65mm, IPC Low Density)
pins: 1 ~{CONVST} (in) "Convert Start. Logic input. A low-to-high transition on this input puts the track-and-hold into its hold mode and starts conversion. When this input is not used, it should be tied to DVDD.", 2 BUSY (out) "Busy Output. The busy output is triggered high by the falling edge of C\O\N\V\S\T\ or rising edge of C\A\L\ and remains high until conversion is completed. BUSY is also used to indicate when the AD7851 has completed its (See Datasheet)", 3 ~{SLEEP} (in) "Sleep Input/Low Power Mode. A Logic 0 initiates a sleep and all circuitry is powered down, including the internal voltage reference, provided there is no conversion or calibration being performed. Calibration data is (See Datasheet)", 4 REFIN/REFOUT (io) "Reference Input/Output. This pin is connected to the internal reference through a series resistor and is the reference source for the analog-to-digital converter. The nominal reference voltage is 4.096 V and this appears at (See Datasheet)", 5 AVDD (power) "Analog Positive Supply Voltage, 5.0 V +/- 5%.", 6 AGND (power) "Analog Ground. Ground reference for track and hold, reference, and DAC", 7 CREF1 "Reference Capacitor (0.1 µF ceramic disc in parallel with a 470 nF tantalum). This external capacitor is used as a charge source for the internal DAC. The capacitor should be tied between the pin and AGND.", 8 CREF2 "Reference Capacitor (0.01 µF ceramic disc). This external capacitor is used in conjunction with the on-chip reference. The capacitor should be tied between the pin and AGND.", 9 AIN(+) (in) "Analog Input. Positive input of the pseudo-differential analog input. Cannot go below AGND or above AVDD at any time and cannot go below AIN(-) when the unipolar input range is selected.", 10 AIN(-) (in) "Analog Input. Negative input of the pseudo-differential analog input. Cannot go below AGND or above AVDD at any time.", 11 NC "No Connect Pin.", 12 AGND (power) "Analog Ground. Ground reference for track and hold, reference, and DAC", 13 AMODE (in) "Analog Mode Pin. This pin allows two different analog input ranges to be selected. A Logic 0 selects range 0 to VREF (i.e., AIN(+) - AIN(-) = 0 to VREF). In this case, AIN(+) cannot go below AIN(-) and AIN(-) cannot go below (See Datasheet)", 14 POLARITY (in) "Serial Clock Polarity. This pin determines the active edge of the serial clock (SCLK). Toggling this pin will reverse the active edge of the serial clock (SCLK). A Logic 1 means that the serial clock (SCLK) idles high and a (See Datasheet)", 15 SM1 (in) "Serial Mode Select Pin. This pin is used in conjunction with the SM2 pin to give different modes of operation as described in Table X", 16 SM2 (in) "Serial Mode Select Pin. This pin is used in conjunction with the SM1 pin to give different modes of operation as described in Table X.", 17 ~{CAL} (in) "Calibration Input. This pin has an internal pull-up current source of 0.15 µA. A Logic 0 on this pin resets all calibration control logic and initiates a calibration on its rising edge. There is the option of connecting a 10 (See Datasheet)", 18 DVDD (power) "Digital Supply Voltage, 5.0 V +/- 5%.", 19 DGND (power) "Digital Ground. Ground reference point for digital circuitry.", 20 DOUT (hiz) "Serial Data Output. The data output is supplied to this pin as a 16-bit serial word.", 21 DIN (in) "Serial Data Input. The data to be written is applied to this pin in serial form (16-bit word). This pin can act as an input pin or as a input and output pin depending on the serial interface mode the part is in (see Table X).", 22 CLKIN (in) "Master Clock Signal for the Device (6 MHz or 7 MHz). Sets the conversion and calibration times.", 23 SCLK (io) "Serial Port Clock. Logic input/output. The SCLK pin is configured as an input or output, dependent on the type of serial data transmission (self-clocking or external-clocking) that has been selected by the SM1 and SM2 pins. (See Datasheet)", 24 ~{SYNC} (io) "This pin can be an input level triggered active low (similar to a chip select in one case and to a frame sync in the other) or an output (similar to a frame sync) pin depending on SM1, SM2 (see Table X)."

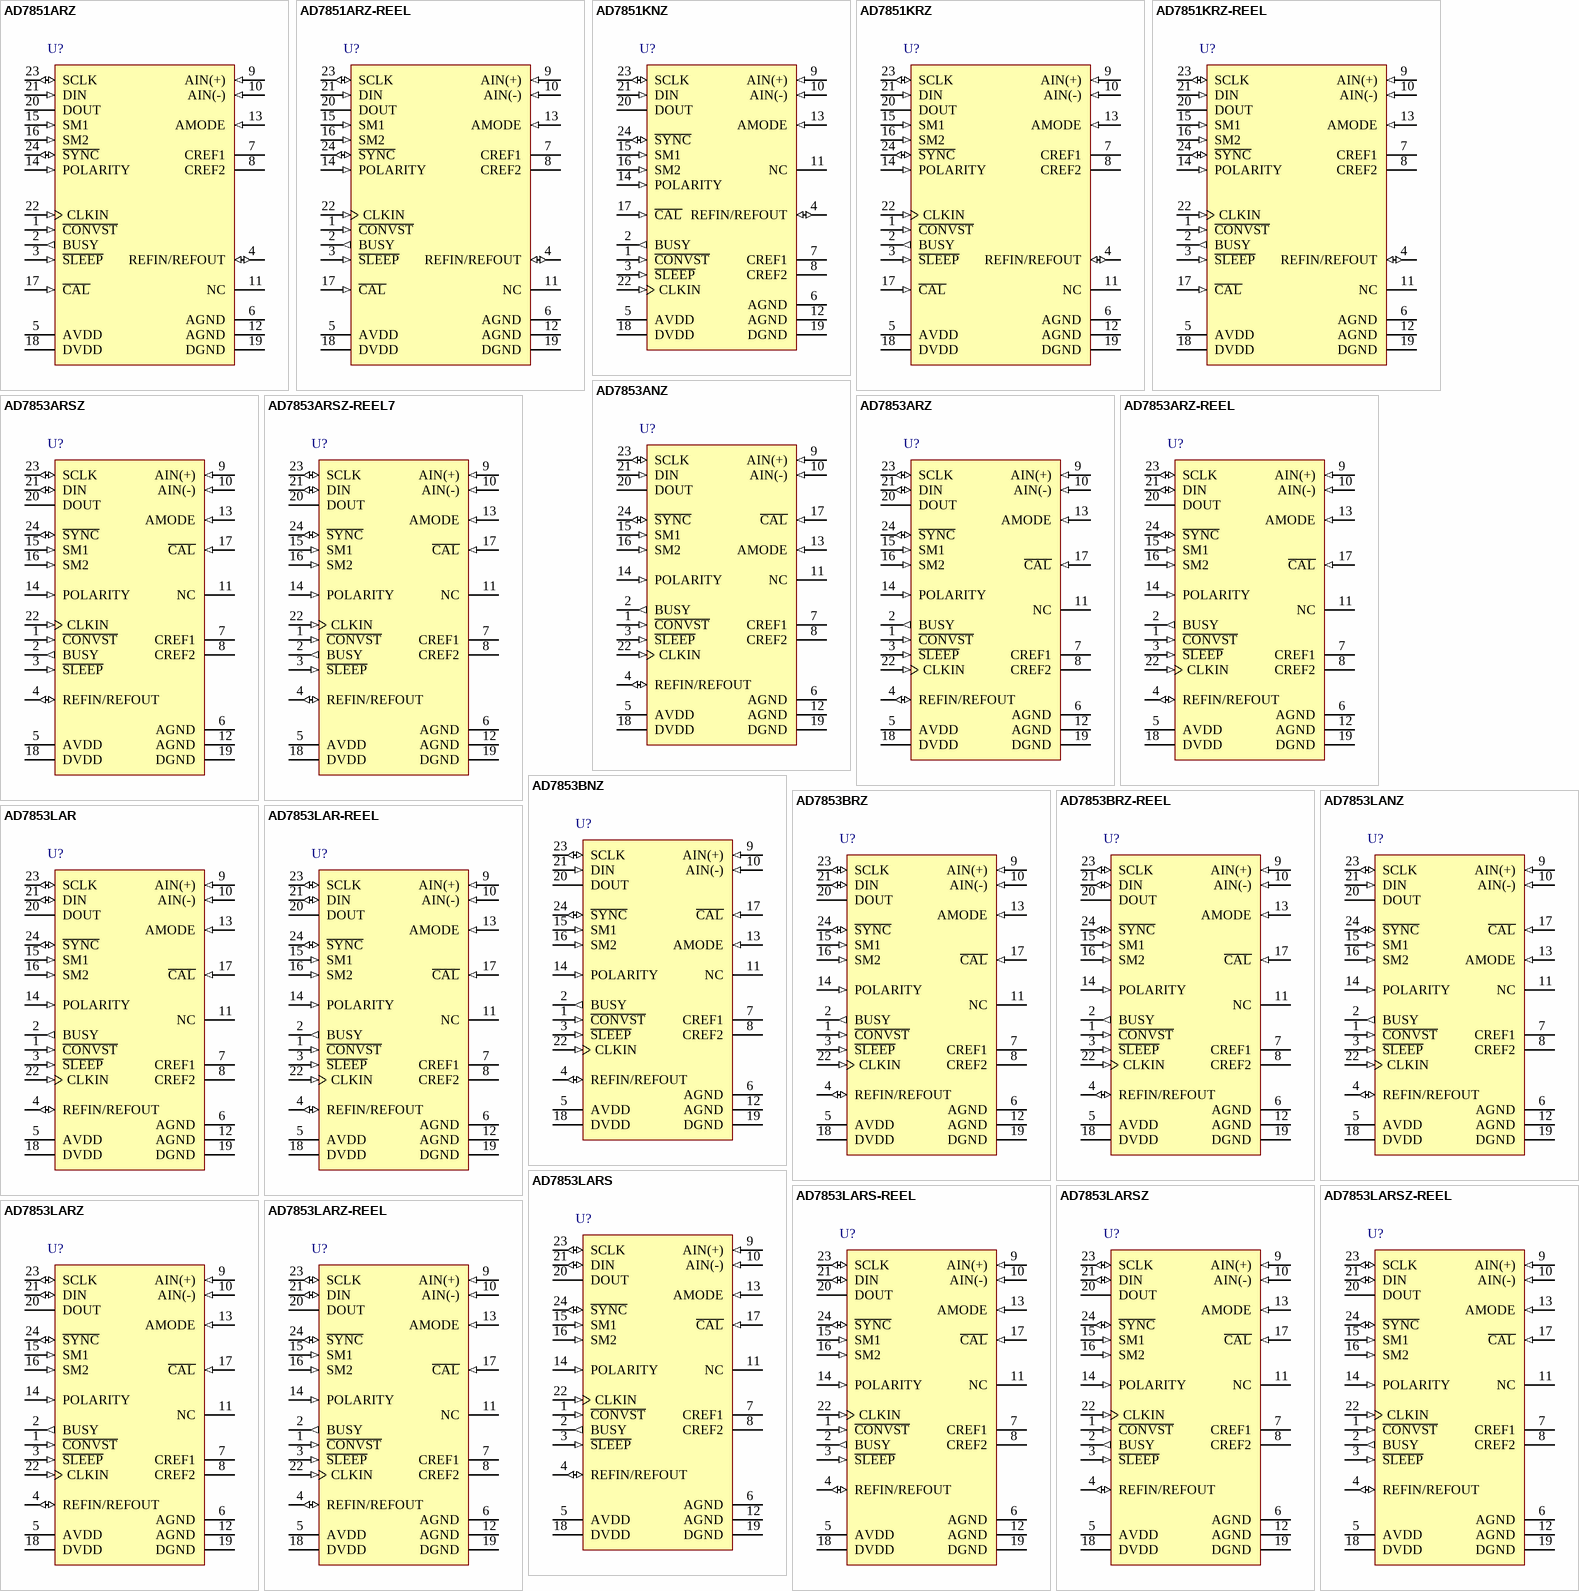
[diagram p67: symbols AD7851ARZ to AD7853LARZ-REEL]